# EAGLE library part MCP4822 (library microchip)
Dual 12-bit DAC.
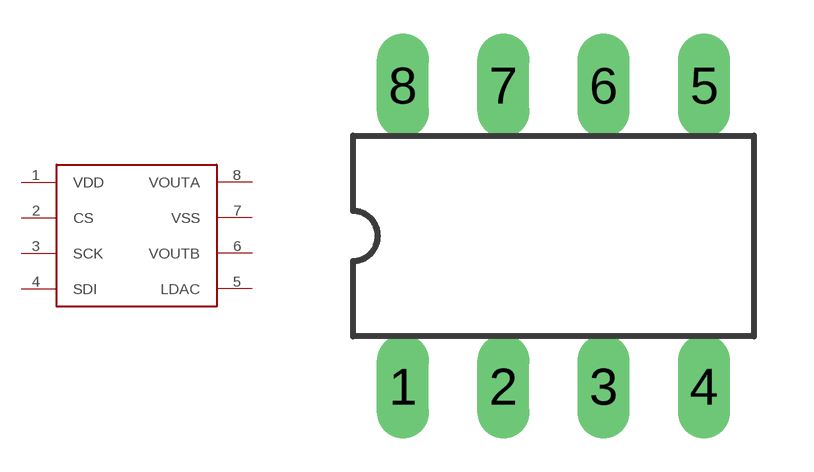
[diagram p1: symbol with the pads of DIL8; footprint DIL8]

Designator prefix U

## MCP4822  [DIL8]
1  VDD
2  CS
3  SCK
4  SDI
5  LDAC
6  VOUTB
7  VSS
8  VOUTA

## Footprint DIL8 (pad centres in mm)
Dual In Line package type P
drill 0.813 long: 1 -3.81,-3.81; 2 -1.27,-3.81; 3 1.27,-3.81; 4 3.81,-3.81; 5 3.81,3.81; 6 1.27,3.81; 7 -1.27,3.81; 8 -3.81,3.81